# Altium footprint library SOW-6.PcbLib: 1 footprints
Each footprint in its own frame and in the unit in brackets; x right, y up, seen from the top. Pads: shape width x height; smd on the part's side, far side on the other; paste and mask are expansions set on the pad; w line width, h text height; cw(c..) or ccw(c..) is an arc to the next point about the centre after c.
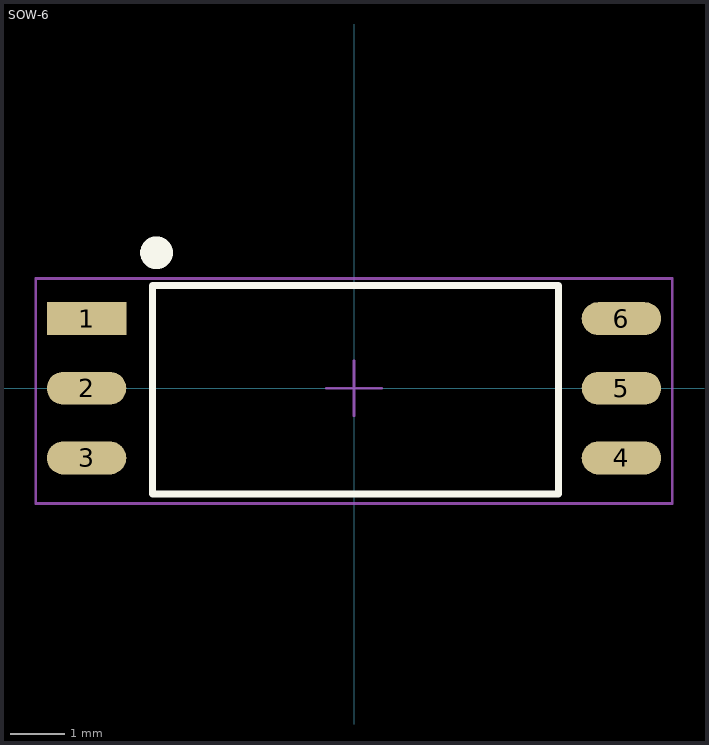
[diagram p0: the footprint, top view; thin cyan lines are the x and y axes]

## SOW-6 [mm]
pads (6):
  rect 1.45x0.6 smd: 1(-4.875,1.27)
  oval 1.45x0.6 smd: 2(-4.875,0) 3(-4.875,-1.27) 4(4.875,-1.27) 5(4.875,0) 6(4.875,1.27)
Top Overlay:
  circle w0.3: c-3.6,2.47 r0.15
  lines w0.127: -3.675,-1.93 -3.675,1.87 3.725,1.87 3.725,-1.93 -3.675,-1.93
Mechanical 15:
  lines w0.05: -0.5,0 0.5,0 ; 0,-0.5 0,0.5 ; -5.8,-2.1 5.8,-2.1 5.8,2 -5.8,2 -5.8,-2.1